# Altium schematic symbol library Diode.SchLib: 22 symbols
Pins are listed as number, name and electrical type; pins without a type are passive.

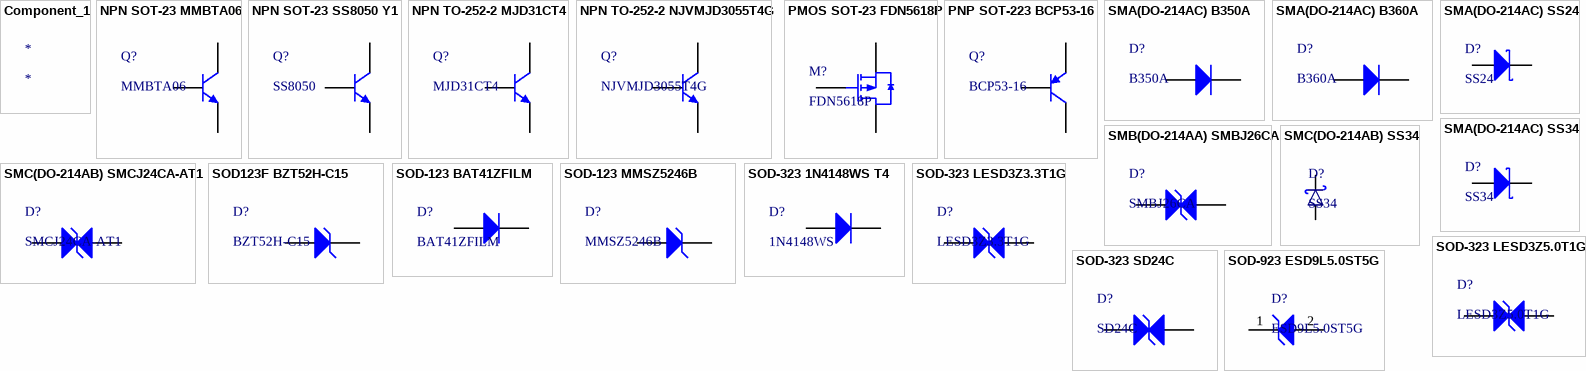
[diagram p0: symbols Component_1 to SOD-923 ESD9L5.0ST5G]

## Component_1
designator *

## NPN SOT-23 MMBTA06
designator Q?, comment MMBTA06
NPN三极管; ComponentLink1Description: 供应商链接; ComponentLink1URL: http://www.szlcsc.com/product/details_2502.html; Package: SOT-23; Supplier: LC; SuppliersPartNumber: C2145
footprint SOT-23(SOT-23-3)
pins: 1 B, 2 E, 3 C

## NPN SOT-23 SS8050 Y1
designator Q?, comment SS8050
NPN 三极管; ComponentLink1Description: 供应商链接; ComponentLink1URL: http://www.szlcsc.com/product/details_2507.html; Package: SOT-23; Supplier: LC; SuppliersPartNumber: C2150
footprint SOT-23(SOT-23-3)
pins: 1 B, 2 E, 3 C

## NPN TO-252-2 MJD31CT4
designator Q?, comment MJD31CT4
NPN三极管; ComponentLink1Description: 供应商链接; ComponentLink1URL: http://www.szlcsc.com/product/details_10164.html; Package: TO-252-2
footprint TO-252-2
pins: 1 B, 2 C, 3 E

## NPN TO-252-2 NJVMJD3055T4G
designator Q?, comment NJVMJD3055T4G
NPN三极管; ComponentLink1Description: 供应商链接; ComponentLink1URL: http://www.szlcsc.com/product/details_10164.html; Package: TO-252-2
footprint TO-252-2
pins: 1 B, 2 C, 3 E

## PMOS SOT-23 FDN5618P
designator M?, comment FDN5618P
P-MOS(场效应管); ComponentLink1Description: 供应商链接; ComponentLink1URL: http://www.szlcsc.com/product/details_11030.html; Package: SOT-23(SOT-23-3)
footprint SOT-23(SOT-23-3)
pins: 1 G, 2 S, 3 D

## PNP SOT-223 BCP53-16
designator Q?, comment BCP53-16
PNP三极管; ComponentLink1Description: 供应商链接; ComponentLink1URL: http://www.szlcsc.com/product/details_25018.html; Package: SOT-223; Supplier: LC; SuppliersPartNumber: C24278
footprint SOT-223
pins: 1 B, 2 C, 3 E

## SMA(DO-214AC) B350A
designator D?, comment B350A
Schottky Diodes; ComponentLink1Description: 供应商链接; ComponentLink1URL: http://www.szlcsc.com/product/details_2841.html; Package: SMA(DO-214AC)
footprint SMA(DO-214AC)_S1
pins: 1 A, 2 K

## SMA(DO-214AC) B360A
designator D?, comment B360A
Schottky Diodes; ComponentLink1Description: 供应商链接; ComponentLink1URL: http://www.szlcsc.com/product/details_2841.html; Package: SMA(DO-214AC)
footprint SMA(DO-214AC)_S1
pins: 1 A, 2 K

## SMA(DO-214AC) SS24
designator D?, comment SS24
肖特基二极管; ComponentLink1Description: 供应商链接; ComponentLink1URL: http://www.szlcsc.com/product/details_23178.html; Package: SMA(DO-214AC); Supplier: LC; SuppliersPartNumber: C22452
footprint SMA(DO-214AC)_S1
pins: 1 A, 2 K

## SMA(DO-214AC) SS34
designator D?, comment SS34
SMA(DO-214AC) SS34, D Schottky
footprint SMA(DO-214AC)_S1
pins: 1 A, 2 K

## SMB(DO-214AA) SMBJ26CA
designator D?, comment SMBJ26CA
TVS; SMBJ Transient Voltage Suppressor Diode Series; ComponentLink1Description: 供应商链接; ComponentLink1URL: http://www.szlcsc.com/product/details_79530.html; Package: SMB/DO-214AA; Supplier: LC; SuppliersPartNumber: C78395
footprint SMB(DO-214AA)_S1
pins: 1 A, 2 K

## SMC(DO-214AB) SMCJ24CA-AT1
designator D?, comment SMCJ24CA-AT1
TVS; ESD 抑制器/TVS 二极管; ComponentLink1Description: 供应商链接; ComponentLink1URL: http://www.szlcsc.com/product/details_79530.html; Package: SMB/DO-214AA; Supplier: LC; SuppliersPartNumber: C78395
footprint SMC(DO-214AB)_S1
pins: 1 A, 2 K

## SMC(DO-214AB) SS34
designator D?, comment SS34
SMC/DO-214AB, D Schottky
footprint SMC(DO-214AB)_S1
pins: 1, 2

## SOD123F BZT52H-C15
designator D?, comment BZT52H-C15
Single Zener diodes in a SOD123F package; ComponentLink1Description: 供应商链接; ComponentLink1URL: http://www.szlcsc.com/product/details_8535.html; Package: LL-34; Supplier: LC; SuppliersPartNumber: C8056
footprint SOD-123F
pins: 1 A, 2 K

## SOD-123 BAT41ZFILM
designator D?, comment BAT41ZFILM
Low capacitance small signal Schottky diodes; ComponentLink1Description: 供应商链接; ComponentLink1URL: http://www.szlcsc.com/product/details_36698.html; Package: SOD-123
footprint SOD-123
pins: 1 A, 2 K

## SOD-123 MMSZ5246B
designator D?, comment MMSZ5246B
Mount Silicon Zener Diodes; ComponentLink1Description: 供应商链接; ComponentLink1URL: http://www.szlcsc.com/product/details_8541.html; Package: SOD-123
footprint SOD-123
pins: 1 A, 2 K

## SOD-323 1N4148WS T4
designator D?, comment 1N4148WS
Plastic-Encapsulate Diode; ComponentLink1Description: 供应商链接; ComponentLink1URL: http://www.szlcsc.com/product/details_2485.html; Package: SOD-123
footprint SOD-323
pins: 1 A, 2 K

## SOD-323 LESD3Z3.3T1G
designator D?, comment LESD3Z3.3T1G
TVS/ESD, SOD-323, 3.3V; ComponentLink1Description: 供应商链接; ComponentLink1URL: http://www.szlcsc.com/product/details_79530.html; Package: SMB/DO-214AA; Supplier: LC; SuppliersPartNumber: C78395
footprint SOD-323
pins: 1 A, 2 K

## SOD-323 LESD3Z5.0T1G
designator D?, comment LESD3Z5.0T1G
TVS/ESD, SOD-323, 5V; ComponentLink1Description: 供应商链接; ComponentLink1URL: http://www.szlcsc.com/product/details_79530.html; Package: SMB/DO-214AA; Supplier: LC; SuppliersPartNumber: C78395
footprint SOD-323
pins: 1 A, 2 K

## SOD-323 SD24C
designator D?, comment SD24C
TVS; ESD 抑制器/TVS 二极管; ComponentLink1Description: 供应商链接; ComponentLink1URL: http://www.szlcsc.com/product/details_79530.html; Package: SMB/DO-214AA; Supplier: LC; SuppliersPartNumber: C78395
footprint SOD-323
pins: 1 A, 2 K

## SOD-923 ESD9L5.0ST5G
designator D?, comment ESD9L5.0ST5G
Transient Voltage Suppressor, ESD Protection Diode with Ultra-Low Capacitance, 2-Pin SOD-923, Pb-Free, Tape and Reel, CMP-1063-00114-1; Manufacturer: On Semiconductor; IR Max (uA): 1; VRWM Max (V): 5; V(BR) Min (V): 5.4; C Max (pF): 0.9; Direction: Unidirectional; RoHS: Pb-Free; Packing: Tape and Reel; Mounting Technology: Surface Mount; ComponentLink3Description: Package Specification; PackageDescription: 2-Pin SOD, Body 0.8 x 0.6 mm; ComponentLink2Description: Datasheet; PackageReference: SOD-923-2-514AB-01; PartNumber: ESD9L5.0ST5G; ComponentLink1Description: Manufacturer URL; PackageVersion: Rev. C, 03/2011; Number of Lines: 1; ComponentLink3URL: http://www.onsemi.com/pub_link/Collateral/514AB.PDF; DatasheetVersion: Rev. 5; ComponentLink2URL: http://www.onsemi.cn/pub_link/Collateral/ESD9L-D.PDF; ComponentLink1URL: http://www.onsemi.com/
footprint ONSC-SOD-923-2-514AB-01_V (SOD, 2-Leads, Body 0.8x0.6mm)
pins: 1 K, 2 A